# Altium footprint library MC7805ACD2TR4G.PcbLib: 3 footprints
Each footprint in its own frame and in the unit in brackets; x right, y up, seen from the top. Pads: shape width x height; smd on the part's side, far side on the other; paste and mask are expansions set on the pad; w line width, h text height; cw(c..) or ccw(c..) is an arc to the next point about the centre after c.
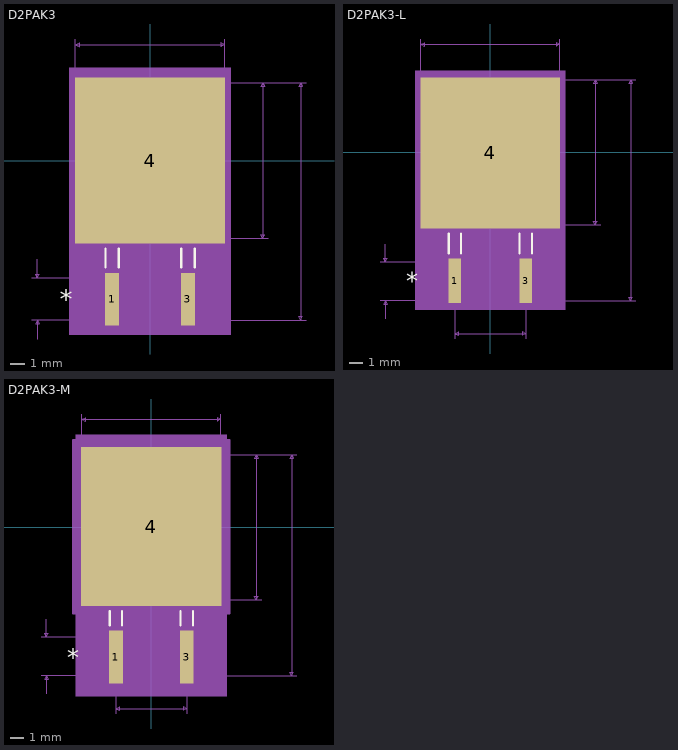
[diagram p0: the footprints below, top view; thin cyan lines are the x and y axes]

## D2PAK3 [mil]
pads (3):
  rect 37x138 smd: 1(-100,-365) 3(100,-365)
  rect 395x438 smd: 4(0,0)
Top Overlay:
  lines w6: -117.5,-282 -117.5,-232.1 ; -82.5,-282 -82.5,-232.1 ; 82.5,-282 82.5,-232.1 ; 117.5,-282 117.5,-232.1
  text "*" at -237.5,-390 h50
Mechanical 5:
  region: -212.5,244 212.5,244 212.5,-459 -212.5,-459
Mechanical 7:
  lines w1: -311.5,-420 0,-420 411.5,-420 ; -311.5,-310 0,-310 ; -296.5,-470 -296.5,-420 ; -296.5,-260 -296.5,-310 ; -196.5,0 -196.5,320 ; 0,-205 311.5,-205 ; 196.5,0 196.5,320 ; 311.5,205 0,205 411.5,205 ; -296.5,-420 -301.5,-430 -291.5,-430 -296.5,-420 ; -296.5,-310 -301.5,-300 -291.5,-300 -296.5,-310 ; -196.5,305 196.5,305 ; -196.5,305 -186.5,310 -186.5,300 -196.5,305 ; 196.5,305 186.5,310 186.5,300 196.5,305 ; 296.5,-205 296.5,205 ; 296.5,-205 291.5,-195 301.5,-195 296.5,-205 ; 296.5,205 291.5,195 301.5,195 296.5,205 ; 396.5,-420 396.5,205 ; 396.5,-420 391.5,-410 401.5,-410 396.5,-420 ; 396.5,205 391.5,195 401.5,195 396.5,205
  text "Default Padstyle: RX37Y138D0T" at -362.5,-570 h50
  text "Large Padstyle: RX395Y438D0T" at -350,-645 h50
  text "Alt 1 Padstyle: OX60Y90D30P" at -337.5,-720 h50
  text "Alt 2 Padstyle: OX90Y60D30P" at -337.5,-795 h50
  text "0.41in/10.414mm" at 316.5,-12.5 h25
  text "0.393in/9.982mm" at -93.75,325 h25
  text "0.625in/15.875mm" at 416.5,-172.5 h25
  text "0.11in/2.794mm" at -491.5,-377.5 h25
Mechanical 13:
  lines w1: -17.5,-205 -17.5,-238 17.5,-238 17.5,-205 ; -196.5,-205 196.5,-205 196.5,205 -196.5,205 -196.5,-205 ; -117.5,-420 -117.5,-205 -82.5,-205 -82.5,-420 -117.5,-420 ; 82.5,-420 82.5,-205 117.5,-205 117.5,-420 82.5,-420
  text "*" at -112.5,-220 h50
Mechanical 15:
  region: -127.5,-229 -208.5,-229 -208.5,229 208.5,229 208.5,-229 127.5,-229 127.5,-444 72.5,-444 72.5,-306 -72.5,-306 -72.5,-444 -127.5,-444
  lines w6: -208.5,-229 -208.5,229 208.5,229 208.5,-229 127.5,-229 127.5,-444 72.5,-444 72.5,-306 -72.5,-306 -72.5,-444 -127.5,-444 -127.5,-229 -208.5,-229
3D body: height 10, standoff 0, extent 0,0 10,10

## D2PAK3-L [mil]
pads (3):
  rect 35x126 smd paste+0 mask+0: 1(-100,-363) 3(100,-363)
  rect 393x426 smd paste+0 mask+0: 4(0,-2)
Top Overlay:
  lines w6: -117.5,-286 -117.5,-229 ; -82.5,-286 -82.5,-229 ; 82.5,-286 82.5,-229 ; 117.5,-286 117.5,-229
  text "*" at -237.5,-388 h50
Mechanical 5:
  region: -211.5,230 211.5,230 211.5,-445 -211.5,-445
Mechanical 7:
  lines w1: -311.5,-420 0,-420 411.5,-420 ; -311.5,-310 0,-310 ; -296.5,-470 -296.5,-420 ; -296.5,-260 -296.5,-310 ; -196.5,0 -196.5,320 ; -100,-527.5 -100,-312.5 ; 0,-205 311.5,-205 ; 100,-527.5 100,-312.5 ; 196.5,0 196.5,320 ; 311.5,205 0,205 411.5,205 ; -296.5,-420 -301.5,-430 -291.5,-430 -296.5,-420 ; -296.5,-310 -301.5,-300 -291.5,-300 -296.5,-310 ; -196.5,305 196.5,305 ; -196.5,305 -186.5,310 -186.5,300 -196.5,305 ; -100,-512.5 100,-512.5 ; -100,-512.5 -90,-507.5 -90,-517.5 -100,-512.5 ; 100,-512.5 90,-507.5 90,-517.5 100,-512.5 ; 196.5,305 186.5,310 186.5,300 196.5,305 ; 296.5,-205 296.5,205 ; 296.5,-205 291.5,-195 301.5,-195 296.5,-205 ; 296.5,205 291.5,195 301.5,195 296.5,205 ; 396.5,-420 396.5,205 ; 396.5,-420 391.5,-410 401.5,-410 396.5,-420 ; 396.5,205 391.5,195 401.5,195 396.5,205
  text "Default Padstyle: RX35Y126D0T" at -362.5,-770 h50
  text "Large Padstyle: RX393Y426D0T" at -350,-845 h50
  text "Alt 1 Padstyle: OX60Y90D30P" at -337.5,-920 h50
  text "Alt 2 Padstyle: OX90Y60D30P" at -337.5,-995 h50
  text "0.41in/10.414mm" at 316.5,-12.5 h25
  text "0.393in/9.982mm" at -93.75,325 h25
  text "0.625in/15.875mm" at 416.5,-170.5 h25
  text "0.11in/2.794mm" at -491.5,-377.5 h25
  text "0.2in/5.08mm" at -75,-557.5 h25
Mechanical 13:
  lines w1: -17.5,-205 -17.5,-238 17.5,-238 17.5,-205 ; -196.5,-205 196.5,-205 196.5,205 -196.5,205 -196.5,-205 ; -117.5,-420 -117.5,-205 -82.5,-205 -82.5,-420 -117.5,-420 ; 82.5,-420 82.5,-205 117.5,-205 117.5,-420 82.5,-420
  text "*" at -112.5,-220 h50
Mechanical 15:
  region: -121.5,-219 -200.5,-219 -200.5,215 200.5,215 200.5,-219 121.5,-219 121.5,-430 78.5,-430 78.5,-304 -78.5,-304 -78.5,-430 -121.5,-430
  lines w6: -200.5,-219 -200.5,215 200.5,215 200.5,-219 121.5,-219 121.5,-430 78.5,-430 78.5,-304 -78.5,-304 -78.5,-430 -121.5,-430 -121.5,-219 -200.5,-219
3D body: height 10, standoff 0, extent 0,0 10,10

## D2PAK3-M [mil]
pads (3):
  rect 39x150 smd paste+0 mask+0: 1(-100,-367) 3(100,-367)
  rect 397x450 smd paste+0 mask+0: 4(0,2)
Top Overlay:
  lines w6: -117.5,-278 -117.5,-236.1 ; -82.5,-278 -82.5,-236.1 ; 82.5,-278 82.5,-236.1 ; 117.5,-278 117.5,-236.1
  text "*" at -237.5,-392 h50
Mechanical 5:
  region: -213.5,262 213.5,262 213.5,-477 -213.5,-477
Mechanical 7:
  lines w1: -311.5,-420 0,-420 411.5,-420 ; -311.5,-310 0,-310 ; -296.5,-470 -296.5,-420 ; -296.5,-260 -296.5,-310 ; -196.5,0 -196.5,320 ; -100,-527.5 -100,-312.5 ; 0,-205 311.5,-205 ; 100,-527.5 100,-312.5 ; 196.5,0 196.5,320 ; 311.5,205 0,205 411.5,205 ; -296.5,-420 -301.5,-430 -291.5,-430 -296.5,-420 ; -296.5,-310 -301.5,-300 -291.5,-300 -296.5,-310 ; -196.5,305 196.5,305 ; -196.5,305 -186.5,310 -186.5,300 -196.5,305 ; -100,-512.5 100,-512.5 ; -100,-512.5 -90,-507.5 -90,-517.5 -100,-512.5 ; 100,-512.5 90,-507.5 90,-517.5 100,-512.5 ; 196.5,305 186.5,310 186.5,300 196.5,305 ; 296.5,-205 296.5,205 ; 296.5,-205 291.5,-195 301.5,-195 296.5,-205 ; 296.5,205 291.5,195 301.5,195 296.5,205 ; 396.5,-420 396.5,205 ; 396.5,-420 391.5,-410 401.5,-410 396.5,-420 ; 396.5,205 391.5,195 401.5,195 396.5,205
  text "Default Padstyle: RX39Y150D0T" at -362.5,-770 h50
  text "Large Padstyle: RX397Y450D0T" at -350,-845 h50
  text "Alt 1 Padstyle: OX60Y90D30P" at -337.5,-920 h50
  text "Alt 2 Padstyle: OX90Y60D30P" at -337.5,-995 h50
  text "0.41in/10.414mm" at 316.5,-12.5 h25
  text "0.393in/9.982mm" at -93.75,325 h25
  text "0.625in/15.875mm" at 416.5,-174.5 h25
  text "0.11in/2.794mm" at -491.5,-377.5 h25
  text "0.2in/5.08mm" at -75,-557.5 h25
Mechanical 13:
  lines w1: -17.5,-205 -17.5,-238 17.5,-238 17.5,-205 ; -196.5,-205 196.5,-205 196.5,205 -196.5,205 -196.5,-205 ; -117.5,-420 -117.5,-205 -82.5,-205 -82.5,-420 -117.5,-420 ; 82.5,-420 82.5,-205 117.5,-205 117.5,-420 82.5,-420
  text "*" at -112.5,-220 h50
Mechanical 15:
  region: -137.5,-243 -220.5,-243 -220.5,247 220.5,247 220.5,-243 137.5,-243 137.5,-462 62.5,-462 62.5,-312 -62.5,-312 -62.5,-462 -137.5,-462
  lines w6: -220.5,-243 -220.5,247 220.5,247 220.5,-243 137.5,-243 137.5,-462 62.5,-462 62.5,-312 -62.5,-312 -62.5,-462 -137.5,-462 -137.5,-243 -220.5,-243
3D body: height 10, standoff 0, extent 0,0 10,10